# Altium schematic symbol library Dr.Xiong_20160818.SchLib: 73 symbols
Pins are listed as number, name and electrical type; pins without a type are passive.

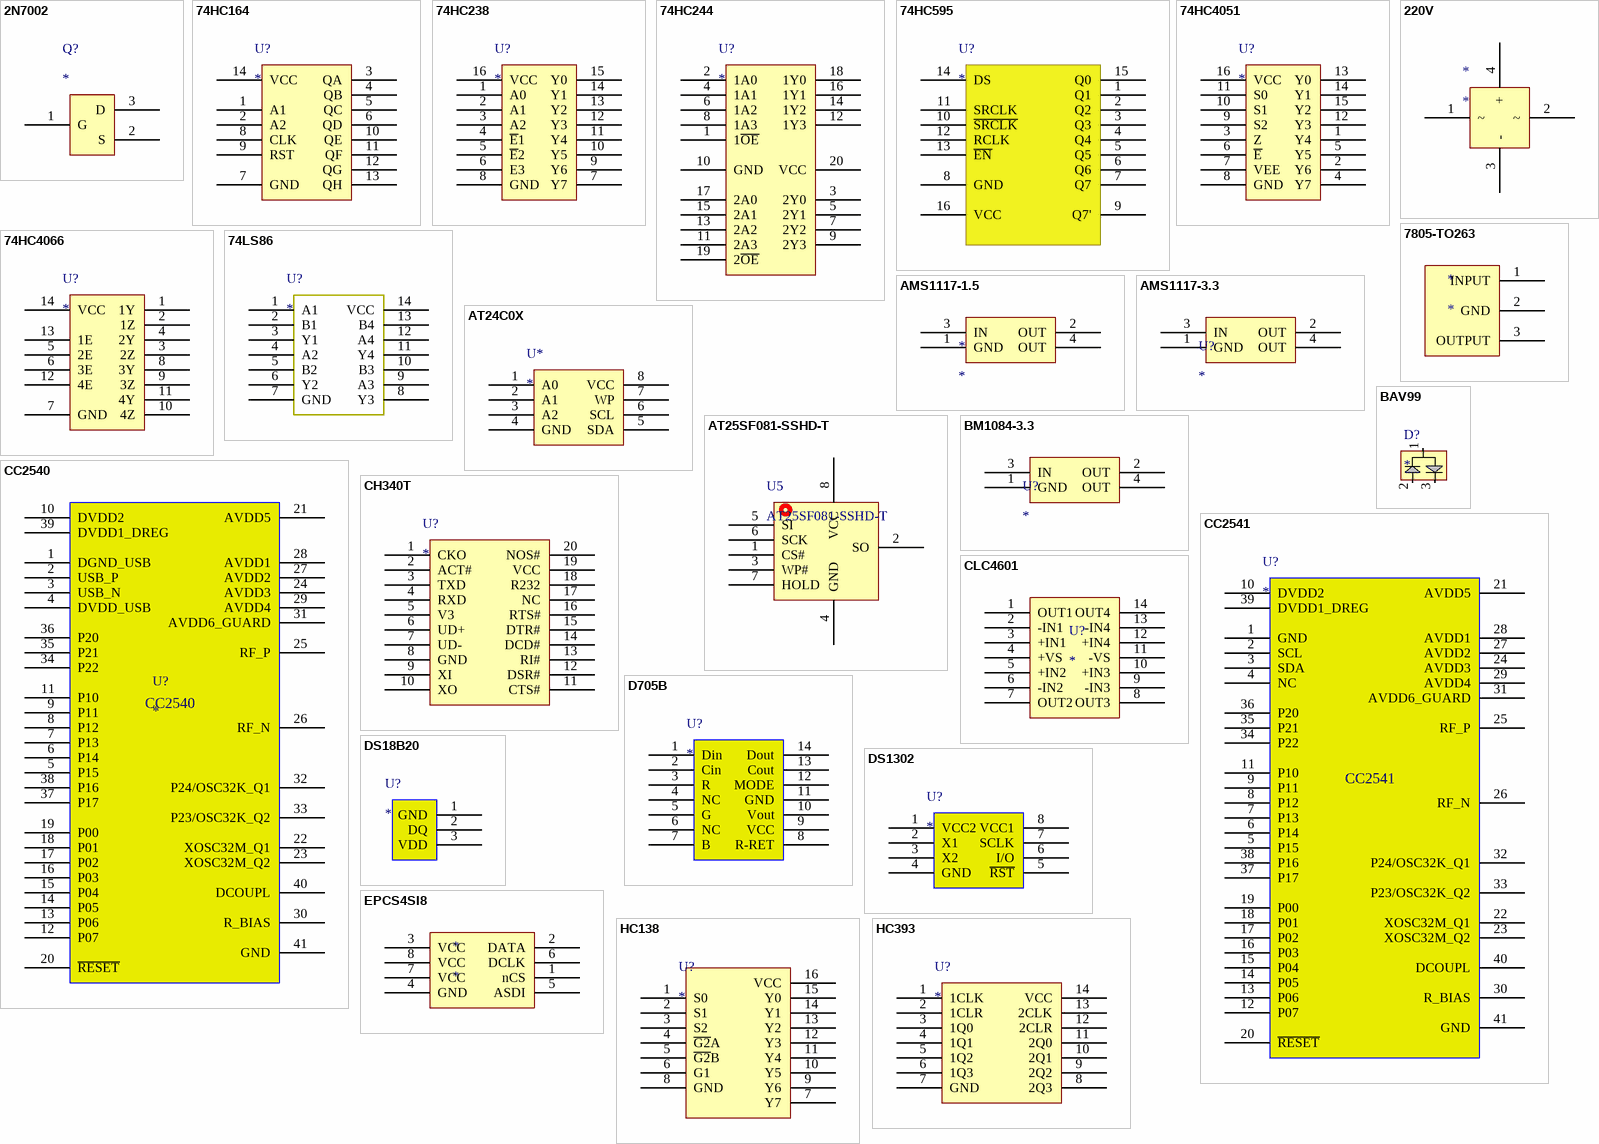
[diagram p0: symbols 2N7002 to HC393]

## 2N7002
designator Q?
footprint SOT-23-3L
pins: 1 G, 2 S, 3 D

## 74HC164
designator U?
footprint SOIC14
pins: 1 A1, 2 A2, 3 QA, 4 QB, 5 QC, 6 QD, 7 GND, 8 CLK, 9 RST, 10 QE, 11 QF, 12 QG, 13 QH, 14 VCC

## 74HC238
designator U?
footprint SOIC16 (Footprint not found)
pins: 1 A0, 2 A1, 3 A2, 4 ~{E}1, 5 ~{E}2, 6 E3, 7 Y7, 8 GND, 9 Y6, 10 Y5, 11 Y4, 12 Y3, 13 Y2, 14 Y1, 15 Y0, 16 VCC

## 74HC244
designator U?
footprint SO20 (Footprint not found)
pins: 1 1~{OE}, 2 1A0, 3 2Y0, 4 1A1, 5 2Y1, 6 1A2, 7 2Y2, 8 1A3, 9 2Y3, 10 GND, 11 2A3, 12 1Y3, 13 2A2, 14 1Y2, 15 2A1, 16 1Y1, 17 2A0, 18 1Y0, 19 2~{OE}, 20 VCC

## 74HC595
designator U?
footprint SOIC16
pins: 1 Q1, 2 Q2, 3 Q3, 4 Q4, 5 Q5, 6 Q6, 7 Q7, 8 GND, 9 Q7', 10 ~{SRCLK}, 11 SRCLK, 12 RCLK, 13 ~{EN}, 14 DS, 15 Q0, 16 VCC

## 74HC4051
designator U?
footprint SOIC16 (Footprint not found)
pins: 1 Y4, 2 Y6, 3 Z, 4 Y7, 5 Y5, 6 ~{E}, 7 VEE, 8 GND, 9 S2, 10 S1, 11 S0, 12 Y3, 13 Y0, 14 Y1, 15 Y2, 16 VCC

## 74HC4066
designator U?
footprint SOIC14
pins: 1 1Y, 2 1Z, 3 2Z, 4 2Y, 5 2E, 6 3E, 7 GND, 8 3Y, 9 3Z, 10 4Z, 11 4Y, 12 4E, 13 1E, 14 VCC

## 74LS86
designator U?
pins: 1 A1, 2 B1, 3 Y1, 4 A2, 5 B2, 6 Y2, 7 GND, 8 Y3, 9 A3, 10 B3, 11 Y4, 12 A4, 13 B4, 14 VCC

## 220V
designator *
pins: 1 ~, 2 ~, 3 -, 4 +

## 7805-TO263
designator *
pins: 1 INPUT, 2 GND, 3 OUTPUT

## AMS1117-1.5
designator *
pins: 1 GND, 2 OUT, 3 IN, 4 OUT

## AMS1117-3.3
designator U?
footprint AMS1117
pins: 1 GND, 2 OUT, 3 IN, 4 OUT

## AT24C0X
designator U*
footprint SOP8
pins: 1 A0, 2 A1, 3 A2, 4 GND, 5 SDA, 6 SCL, 7 WP, 8 VCC

## AT25SF081-SSHD-T
designator U5
pins: 1 CS#, 2 SO, 3 WP#, 4 GND, 5 SI, 6 SCK, 7 HOLD, 8 VCC

## BAV99
designator D?
pins: 1, 2, 3

## BM1084-3.3
designator U?
footprint TO-263
pins: 1 GND, 2 OUT, 3 IN, 4 OUT

## CC2540
designator U?
pins: 1 DGND_USB, 2 USB_P, 3 USB_N, 4 DVDD_USB, 5 P15, 6 P14, 7 P13, 8 P12, 9 P11, 10 DVDD2, 11 P10, 12 P07, 13 P06, 14 P05, 15 P04, 16 P03, 17 P02, 18 P01, 19 P00, 20 ~{RESET}, 21 AVDD5, 22 XOSC32M_Q1, 23 XOSC32M_Q2, 24 AVDD3, 25 RF_P, 26 RF_N, 27 AVDD2, 28 AVDD1, 29 AVDD4, 30 R_BIAS, 31 AVDD6_GUARD, 32 P24/OSC32K_Q1, 33 P23/OSC32K_Q2, 34 P22, 35 P21, 36 P20, 37 P17, 38 P16, 39 DVDD1_DREG, 40 DCOUPL, 41 GND

## CC2541
designator U?
pins: 1 GND, 2 SCL, 3 SDA, 4 NC, 5 P15, 6 P14, 7 P13, 8 P12, 9 P11, 10 DVDD2, 11 P10, 12 P07, 13 P06, 14 P05, 15 P04, 16 P03, 17 P02, 18 P01, 19 P00, 20 ~{RESET}, 21 AVDD5, 22 XOSC32M_Q1, 23 XOSC32M_Q2, 24 AVDD3, 25 RF_P, 26 RF_N, 27 AVDD2, 28 AVDD1, 29 AVDD4, 30 R_BIAS, 31 AVDD6_GUARD, 32 P24/OSC32K_Q1, 33 P23/OSC32K_Q2, 34 P22, 35 P21, 36 P20, 37 P17, 38 P16, 39 DVDD1_DREG, 40 DCOUPL, 41 GND

## CH340T
designator U?
pins: 1 CKO, 2 ACT#, 3 TXD, 4 RXD, 5 V3, 6 UD+, 7 UD-, 8 GND, 9 XI, 10 XO, 11 CTS#, 12 DSR#, 13 RI#, 14 DCD#, 15 DTR#, 16 RTS#, 17 NC, 18 R232, 19 VCC, 20 NOS#

## CLC4601
designator U?
footprint SOIC14
pins: 1 OUT1, 2 -IN1, 3 +IN1, 4 +VS, 5 +IN2, 6 -IN2, 7 OUT2, 8 OUT3, 9 -IN3, 10 +IN3, 11 -VS, 12 +IN4, 13 -IN4, 14 OUT4

## D705B
designator U?
pins: 1 Din, 2 Cin, 3 R, 4 NC, 5 G, 6 NC, 7 B, 8 R-RET, 9 VCC, 10 Vout, 11 GND, 12 MODE, 13 Cout, 14 Dout

## DS18B20
designator U?
pins: 1 GND, 2 DQ, 3 VDD

## DS1302
designator U?
pins: 1 VCC2, 2 X1, 3 X2, 4 GND, 5 ~{RST}, 6 I/O, 7 SCLK, 8 VCC1

## EPCS4SI8
designator *
pins: 1 nCS, 2 DATA, 3 VCC, 4 GND, 5 ASDI, 6 DCLK, 7 VCC, 8 VCC

## HC138
designator U?
footprint SOIC16 (Footprint not found)
pins: 1 S0, 2 S1, 3 S2, 4 ~{G2}A, 5 ~{G2}B, 6 G1, 7 Y7, 8 GND, 9 Y6, 10 Y5, 11 Y4, 12 Y3, 13 Y2, 14 Y1, 15 Y0, 16 VCC

## HC393
designator U?
footprint SOIC14
pins: 1 1CLK, 2 1CLR, 3 1Q0, 4 1Q1, 5 1Q2, 6 1Q3, 7 GND, 8 2Q3, 9 2Q2, 10 2Q1, 11 2Q0, 12 2CLR, 13 2CLK, 14 VCC

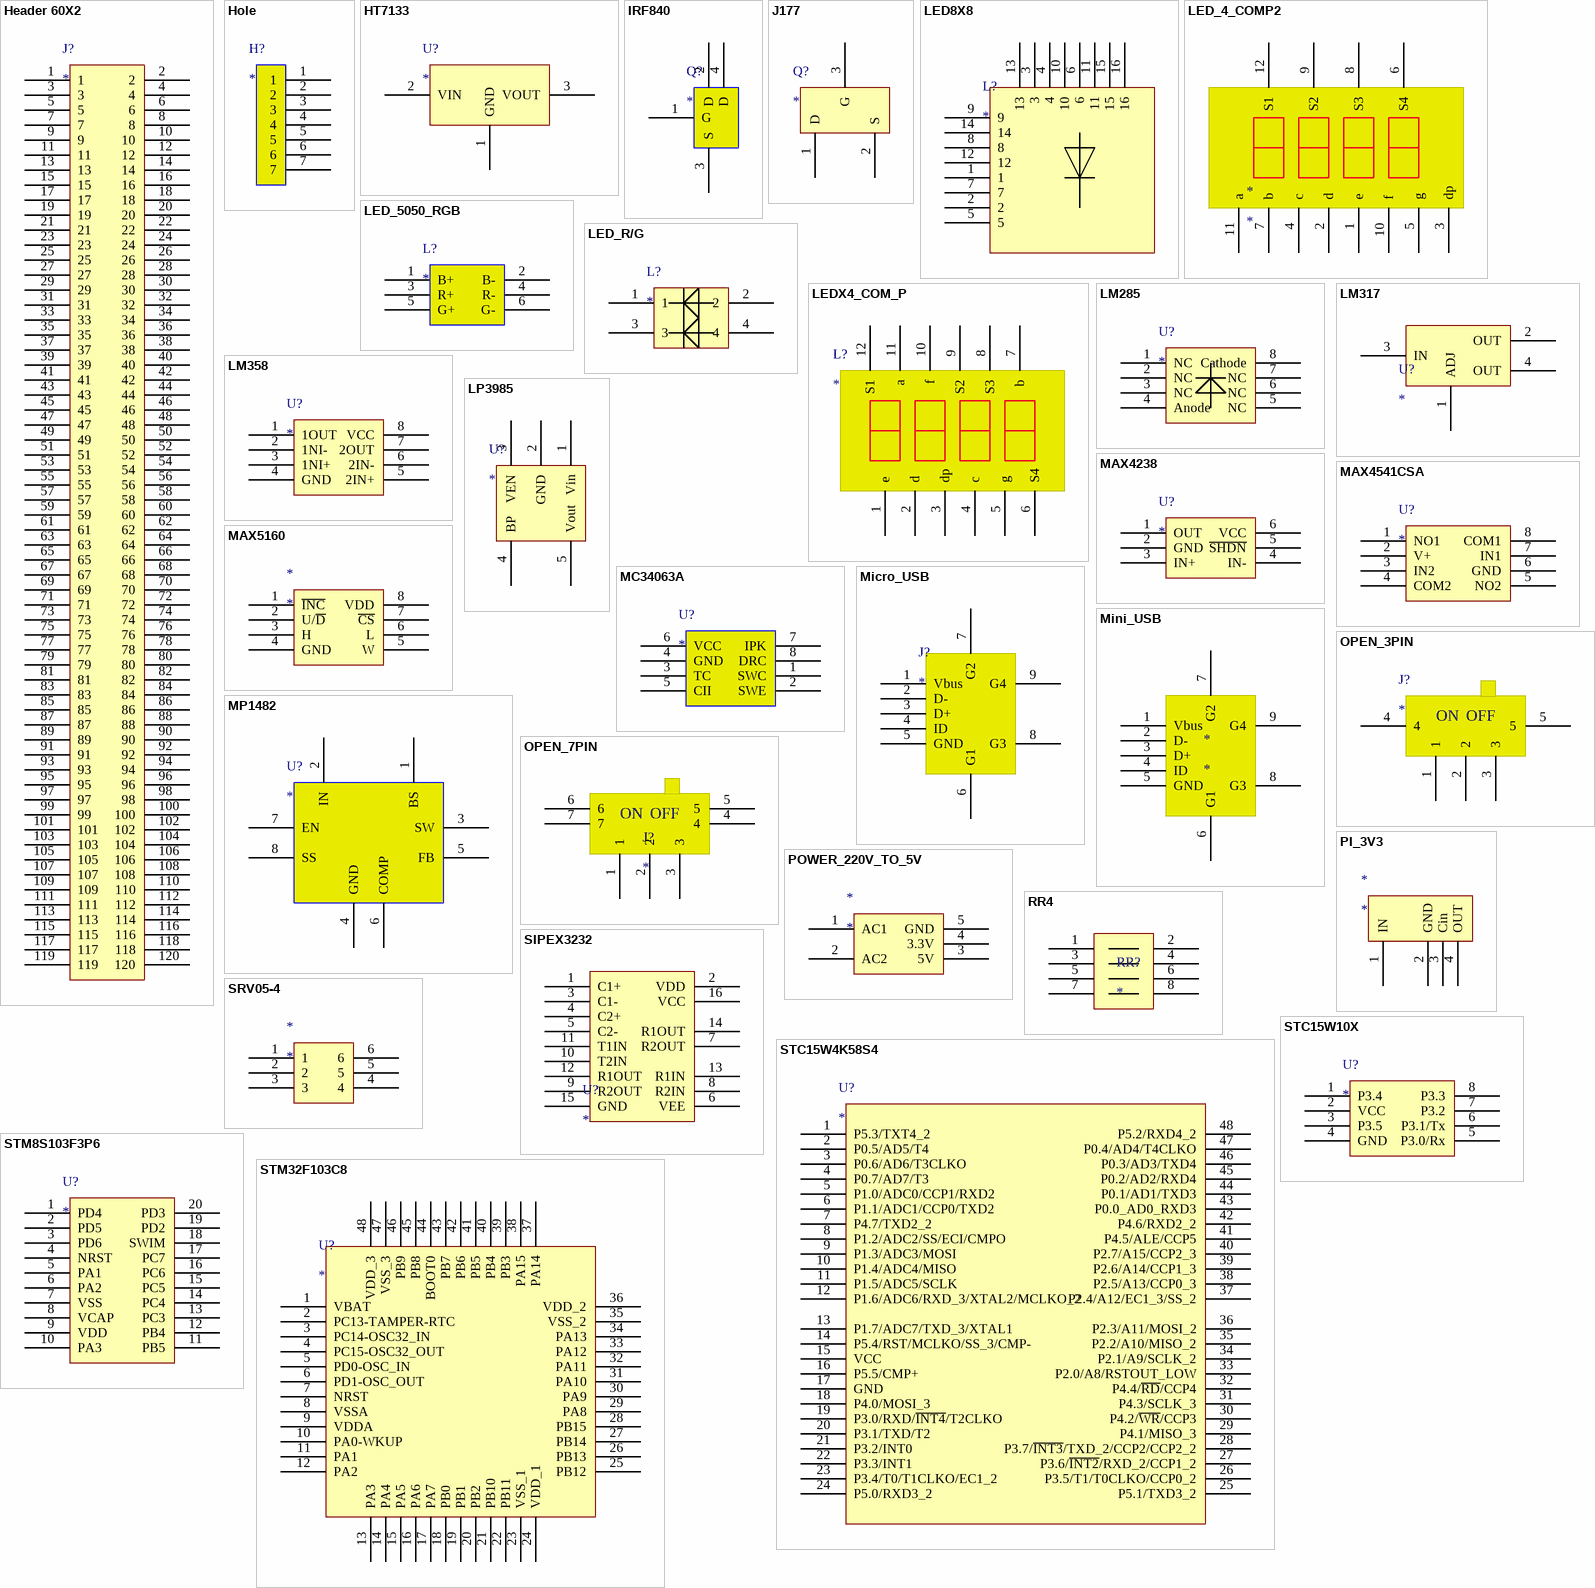
[diagram p1: symbols Header 60X2 to STM32F103C8]

## Header 60X2
designator J?
pins: 1, 2, 3, 4, 5, 6, 7, 8, 9, 10, 11, 12, 13, 14, 15, 16, 17, 18, 19, 20, 21, 22, 23, 24, 25, 26, 27, 28, 29, 30, 31, 32, 33, 34, 35, 36, 37, 38, 39, 40, 41, 42, 43, 44, 45, 46, 47, 48, 49, 50, 51, 52, 53, 54, 55, 56, 57, 58, 59, 60, 61, 62, 63, 64, 65, 66, 67, 68, 69, 70, 71, 72, 73, 74, 75, 76, 77, 78, 79, 80, 81, 82, 83, 84, 85, 86, 87, 88, 89, 90, 91, 92, 93, 94, 95, 96, 97, 98, 99, 100, 101, 102, 103, 104, 105, 106, 107, 108, 109, 110, 111, 112, 113, 114, 115, 116, 117, 118, 119, 120

## Hole
designator H?
footprint HOLE
pins: 1, 2, 3, 4, 5, 6, 7

## HT7133
designator U?
pins: 1 GND, 2 VIN, 3 VOUT

## IRF840
designator Q?
pins: 1 G, 2 D, 3 S, 4 D

## J177
designator Q?
footprint SOT23 (Footprint not found)
pins: 1 D, 2 S, 3 G

## LED8X8
designator L?
pins: 1, 2, 3, 4, 5, 6, 7, 8, 9, 10, 11, 12, 13, 14, 15, 16

## LED_4_COMP2
designator *
pins: 1 e, 2 d, 3 dp, 4 c, 5 g, 6 S4, 7 b, 8 S3, 9 S2, 10 f, 11 a, 12 S1

## LED_5050_RGB
designator L?
pins: 1 B+, 2 B-, 3 R+, 4 R-, 5 G+, 6 G-

## LED_R/G
designator L?
pins: 1, 2, 3, 4

## LEDX4_COM_P
designator L?
pins: 1 e, 2 d, 3 dp, 4 c, 5 g, 6 S4, 7 b, 8 S3, 9 S2, 10 f, 11 a, 12 S1

## LM285
designator U?
footprint SOP8
pins: 1 NC, 2 NC, 3 NC, 4 Anode, 5 NC, 6 NC, 7 NC, 8 Cathode

## LM317
designator U?
footprint TO-263
pins: 1 ADJ, 2 OUT, 3 IN, 4 OUT

## LM358
designator U?
pins: 1 1OUT, 2 1NI-, 3 1NI+, 4 GND, 5 2IN+, 6 2IN-, 7 2OUT, 8 VCC

## LP3985
designator U?
pins: 1 Vin, 2 GND, 3 VEN, 4 BP, 5 Vout

## MAX4238
designator U?
footprint SOT-23-6L
pins: 1 OUT, 2 GND, 3 IN+, 4 IN-, 5 ~{SHDN}, 6 VCC

## MAX4541CSA
designator U?
pins: 1 NO1, 2 V+, 3 IN2, 4 COM2, 5 NO2, 6 GND, 7 IN1, 8 COM1

## MAX5160
designator *
pins: 1 ~{INC}, 2 U/~{D}, 3 H, 4 GND, 5 W, 6 L, 7 ~{CS}, 8 VDD

## MC34063A
designator U?
pins: 1 SWC, 2 SWE, 3 TC, 4 GND, 5 CII, 6 VCC, 7 IPK, 8 DRC

## Micro_USB
designator J?
pins: 1 Vbus, 2 D-, 3 D+, 4 ID, 5 GND, 6 G1, 7 G2, 8 G3, 9 G4

## Mini_USB
designator *
pins: 1 Vbus, 2 D-, 3 D+, 4 ID, 5 GND, 6 G1, 7 G2, 8 G3, 9 G4

## MP1482
designator U?
pins: 1 BS, 2 IN, 3 SW, 4 GND, 5 FB, 6 COMP, 7 EN, 8 SS

## OPEN_3PIN
designator J?
pins: 1, 2, 3, 4, 5
text: ON; OFF

## OPEN_7PIN
designator J?
footprint MSK-11027
pins: 1, 2, 3, 4, 5, 6, 7
text: ON; OFF

## PI_3V3
designator *
pins: 1 IN, 2 GND, 3 Cin, 4 OUT

## POWER_220V_TO_5V
designator *
pins: 1 AC1, 2 AC2, 3 5V, 4 3.3V, 5 GND

## RR4
designator RR?
footprint RES4S
pins: 1, 2, 3, 4, 5, 6, 7, 8

## SIPEX3232
designator U?
footprint TSSOP16 (SIP3232)
pins: 1 C1+, 2 VDD, 3 C1-, 4 C2+, 5 C2-, 6 VEE, 7 R2OUT, 8 R2IN, 9 R2OUT, 10 T2IN, 11 T1IN, 12 R1OUT, 13 R1IN, 14 R1OUT, 15 GND, 16 VCC

## SRV05-4
designator *
pins: 1, 2, 3, 4, 5, 6

## STC15W4K58S4
designator U?
pins: 1 P5.3/TXT4_2, 2 P0.5/AD5/T4, 3 P0.6/AD6/T3CLKO, 4 P0.7/AD7/T3, 5 P1.0/ADC0/CCP1/RXD2, 6 P1.1/ADC1/CCP0/TXD2, 7 P4.7/TXD2_2, 8 P1.2/ADC2/SS/ECI/CMPO, 9 P1.3/ADC3/MOSI, 10 P1.4/ADC4/MISO, 11 P1.5/ADC5/SCLK, 12 P1.6/ADC6/RXD_3/XTAL2/MCLKO_2, 13 P1.7/ADC7/TXD_3/XTAL1, 14 P5.4/RST/MCLKO/SS_3/CMP-, 15 VCC, 16 P5.5/CMP+, 17 GND, 18 P4.0/MOSI_3, 19 P3.0/RXD/~{INT4}/T2CLKO, 20 P3.1/TXD/T2, 21 P3.2/INT0, 22 P3.3/INT1, 23 P3.4/T0/T1CLKO/EC1_2, 24 P5.0/RXD3_2, 25 P5.1/TXD3_2, 26 P3.5/T1/T0CLKO/CCP0_2, 27 P3.6/~{INT2}/RXD_2/CCP1_2, 28 P3.7/~{INT3}/TXD_2/CCP2/CCP2_2, 29 P4.1/MISO_3, 30 P4.2/~{WR}/CCP3, 31 P4.3/SCLK_3, 32 P4.4/~{RD}/CCP4, 33 P2.0/A8/RSTOUT_LOW, 34 P2.1/A9/SCLK_2, 35 P2.2/A10/MISO_2, 36 P2.3/A11/MOSI_2, 37 P2.4/A12/EC1_3/SS_2, 38 P2.5/A13/CCP0_3, 39 P2.6/A14/CCP1_3, 40 P2.7/A15/CCP2_3, 41 P4.5/ALE/CCP5, 42 P4.6/RXD2_2, 43 P0.0_AD0_RXD3, 44 P0.1/AD1/TXD3, 45 P0.2/AD2/RXD4, 46 P0.3/AD3/TXD4, 47 P0.4/AD4/T4CLKO, 48 P5.2/RXD4_2

## STC15W10X
designator U?
footprint SOP8
pins: 1 P3.4, 2 VCC, 3 P3.5, 4 GND, 5 P3.0/Rx, 6 P3.1/Tx, 7 P3.2, 8 P3.3

## STM8S103F3P6
designator U?
pins: 1 PD4, 2 PD5, 3 PD6, 4 NRST, 5 PA1, 6 PA2, 7 VSS, 8 VCAP, 9 VDD, 10 PA3, 11 PB5, 12 PB4, 13 PC3, 14 PC4, 15 PC5, 16 PC6, 17 PC7, 18 SWIM, 19 PD2, 20 PD3

## STM32F103C8
designator U?
pins: 1 VBAT, 2 PC13-TAMPER-RTC, 3 PC14-OSC32_IN, 4 PC15-OSC32_OUT, 5 PD0-OSC_IN, 6 PD1-OSC_OUT, 7 NRST, 8 VSSA, 9 VDDA, 10 PA0-WKUP, 11 PA1, 12 PA2, 13 PA3, 14 PA4, 15 PA5, 16 PA6, 17 PA7, 18 PB0, 19 PB1, 20 PB2, 21 PB10, 22 PB11, 23 VSS_1, 24 VDD_1, 25 PB12, 26 PB13, 27 PB14, 28 PB15, 29 PA8, 30 PA9, 31 PA10, 32 PA11, 33 PA12, 34 PA13, 35 VSS_2, 36 VDD_2, 37 PA14, 38 PA15, 39 PB3, 40 PB4, 41 PB5, 42 PB6, 43 PB7, 44 BOOT0, 45 PB8, 46 PB9, 47 VSS_3, 48 VDD_3

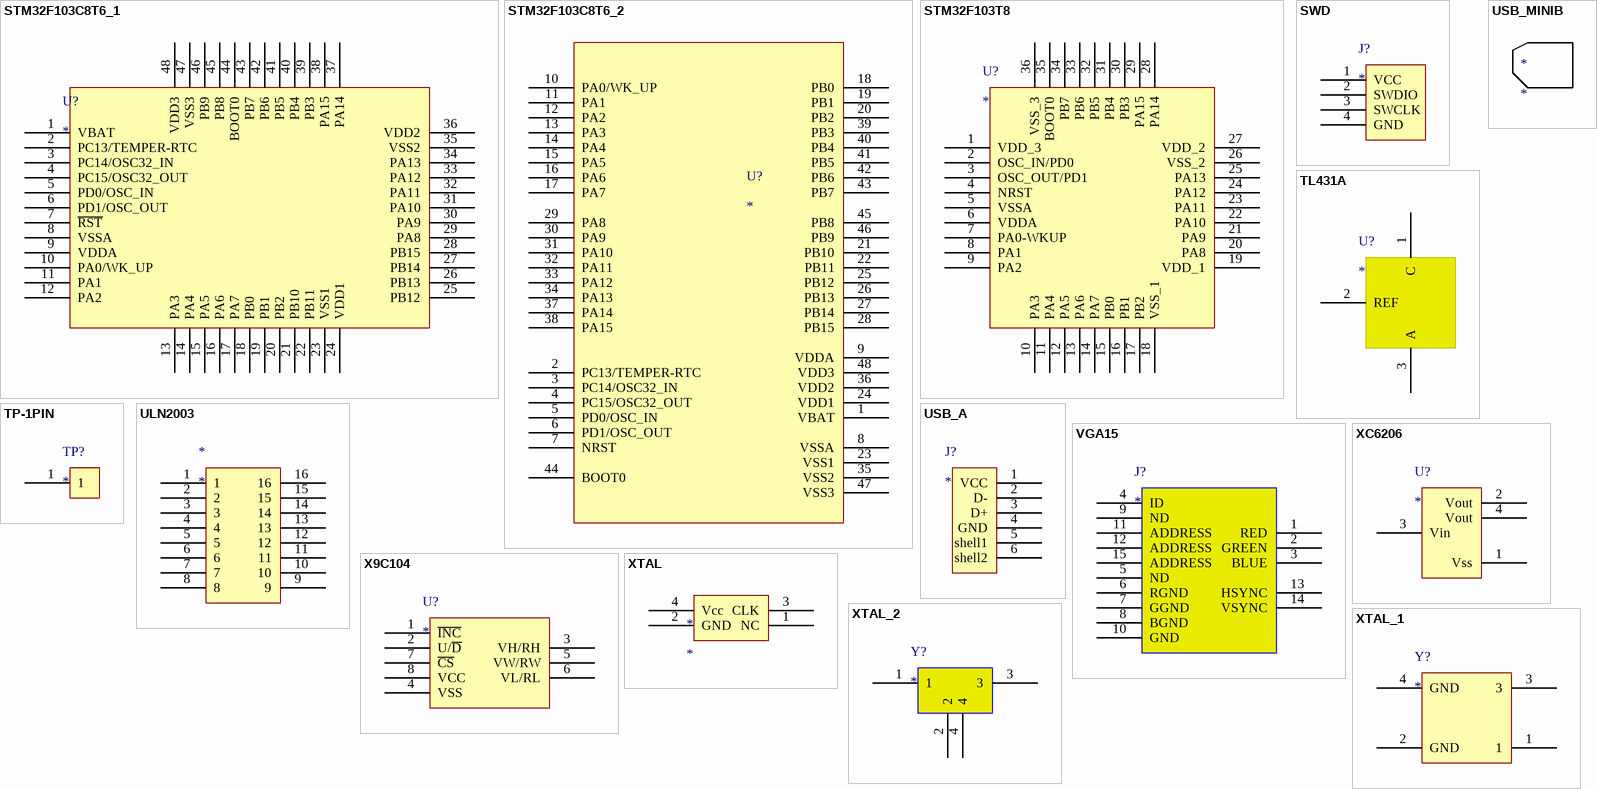
[diagram p2: symbols STM32F103C8T6_1 to XTAL_2]

## STM32F103C8T6_1
designator U?
pins: 1 VBAT, 2 PC13/TEMPER-RTC, 3 PC14/OSC32_IN, 4 PC15/OSC32_OUT, 5 PD0/OSC_IN, 6 PD1/OSC_OUT, 7 ~{RST}, 8 VSSA, 9 VDDA, 10 PA0/WK_UP, 11 PA1, 12 PA2, 13 PA3, 14 PA4, 15 PA5, 16 PA6, 17 PA7, 18 PB0, 19 PB1, 20 PB2, 21 PB10, 22 PB11, 23 VSS1, 24 VDD1, 25 PB12, 26 PB13, 27 PB14, 28 PB15, 29 PA8, 30 PA9, 31 PA10, 32 PA11, 33 PA12, 34 PA13, 35 VSS2, 36 VDD2, 37 PA14, 38 PA15, 39 PB3, 40 PB4, 41 PB5, 42 PB6, 43 PB7, 44 BOOT0, 45 PB8, 46 PB9, 47 VSS3, 48 VDD3

## STM32F103C8T6_2
designator U?
pins: 1 VBAT, 2 PC13/TEMPER-RTC, 3 PC14/OSC32_IN, 4 PC15/OSC32_OUT, 5 PD0/OSC_IN, 6 PD1/OSC_OUT, 7 NRST, 8 VSSA, 9 VDDA, 10 PA0/WK_UP, 11 PA1, 12 PA2, 13 PA3, 14 PA4, 15 PA5, 16 PA6, 17 PA7, 18 PB0, 19 PB1, 20 PB2, 21 PB10, 22 PB11, 23 VSS1, 24 VDD1, 25 PB12, 26 PB13, 27 PB14, 28 PB15, 29 PA8, 30 PA9, 31 PA10, 32 PA11, 33 PA12, 34 PA13, 35 VSS2, 36 VDD2, 37 PA14, 38 PA15, 39 PB3, 40 PB4, 41 PB5, 42 PB6, 43 PB7, 44 BOOT0, 45 PB8, 46 PB9, 47 VSS3, 48 VDD3

## STM32F103T8
designator U?
pins: 1 VDD_3, 2 OSC_IN/PD0, 3 OSC_OUT/PD1, 4 NRST, 5 VSSA, 6 VDDA, 7 PA0-WKUP, 8 PA1, 9 PA2, 10 PA3, 11 PA4, 12 PA5, 13 PA6, 14 PA7, 15 PB0, 16 PB1, 17 PB2, 18 VSS_1, 19 VDD_1, 20 PA8, 21 PA9, 22 PA10, 23 PA11, 24 PA12, 25 PA13, 26 VSS_2, 27 VDD_2, 28 PA14, 29 PA15, 30 PB3, 31 PB4, 32 PB5, 33 PB6, 34 PB7, 35 BOOT0, 36 VSS_3

## SWD
designator J?
pins: 1 VCC, 2 SWDIO, 3 SWCLK, 4 GND

## TL431A
designator U?
pins: 1 C, 2 REF, 3 A

## TP-1PIN
designator TP?
footprint T_Point_1mm
pins: 1

## ULN2003
designator *
pins: 1, 2, 3, 4, 5, 6, 7, 8, 9, 10, 11, 12, 13, 14, 15, 16

## USB_A
designator J?
pins: 1 VCC, 2 D-, 3 D+, 4 GND, 5 shell1, 6 shell2

## USB_MINIB
designator *

## VGA15
designator J?
pins: 1 RED, 2 GREEN, 3 BLUE, 4 ID, 5 ND, 6 RGND, 7 GGND, 8 BGND, 9 ND, 10 GND, 11 ADDRESS, 12 ADDRESS, 13 HSYNC, 14 VSYNC, 15 ADDRESS

## X9C104
designator U?
pins: 1 ~{INC}, 2 U/~{D}, 3 VH/RH, 4 VSS, 5 VW/RW, 6 VL/RL, 7 ~{CS}, 8 VCC

## XC6206
designator U?
footprint SOT-23 (Footprint not found)
pins: 1 Vss, 2 Vout, 3 Vin, 4 Vout

## XTAL
designator *
pins: 1 NC, 2 GND, 3 CLK, 4 Vcc

## XTAL_1
designator Y?
pins: 1, 2 GND, 3, 4 GND

## XTAL_2
designator Y?
pins: 1, 2, 3, 4